# EAGLE library part LM2575_N_16 (library SensorCape)
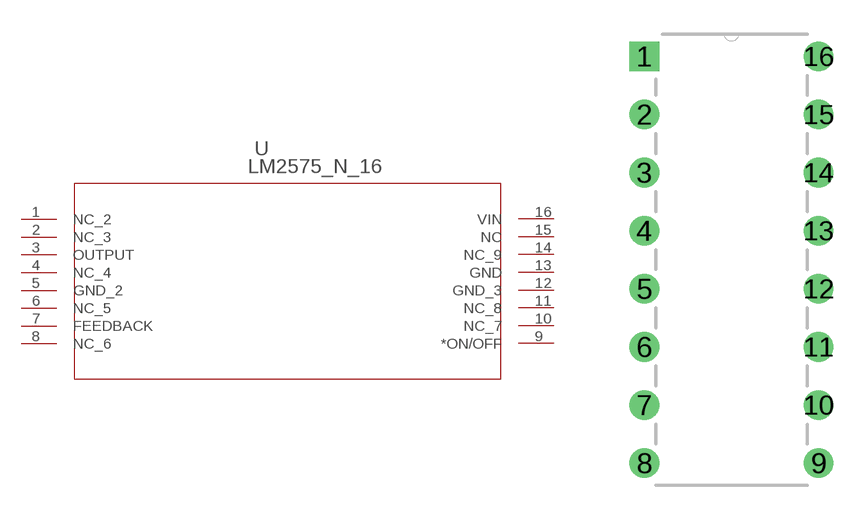
[diagram p27: symbol with the pads of N16; footprint N16]

Designator prefix U

## LM2575_N_16 (DATASHEETURL: http://www.ti.com/lit/gpn/LM2575; DESCRIPTION: 1-A Simple Step-Down Adjustable Voltage Switching Regulator with Output Enable; FAMILY_NAME: STEP-DOWN REGULATOR; GENERIC_PART_NUMBER: LM2575; INDUSTRY_STD_PKG_TYPE: PDIP; MANUFACTURER: Texas Instruments; MANUFACTURER_PART_NUMBER: lm2575_n_16; PACKAGE_DESIGNATOR: N; PIN_COUNT: 16; VENDOR: Texas Instruments)  [N16]
1  NC_2  pas
2  NC_3  pas
3  OUTPUT  out
4  NC_4  pas
5  GND_2  pwr
6  NC_5  pas
7  FEEDBACK  pas
8  NC_6  pas
9  *ON/OFF  pas
10  NC_7  pas
11  NC_8  pas
12  GND_3  pwr
13  GND  pwr
14  NC_9  pas
15  NC  pas
16  VIN  in

## Footprint N16 (pad centres in mm)
drill 0.787 square: 1 -7.62,17.78
drill 0.787: 2 -7.62,15.24; 3 -7.62,12.7; 4 -7.62,10.16; 5 -7.62,7.62; 6 -7.62,5.08; 7 -7.62,2.54; 8 -7.62,0; 9 0,0; 10 0,2.54; 11 0,5.08; 12 0,7.62; 13 0,10.16; 14 0,12.7; 15 0,15.24; 16 0,17.78